# Altium schematic symbol library Power_Management.SchLib: 2 symbols
Pins are listed as number, name and electrical type; pins without a type are passive.

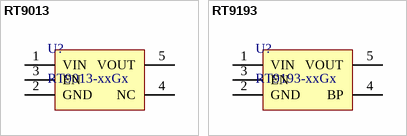
[diagram p0: symbols RT9013 to RT9193]

## RT9013
designator U?, comment RT9013-xxGx
Positive 500mA Low Dropout Regulator
footprint SOT-23-5
pins: 1 VIN, 2 GND, 3 EN, 4 NC, 5 VOUT

## RT9193
designator U?, comment RT9193-xxGx
Positive 300mA Low Dropout Regulator
footprint SOT-23-5
pins: 1 VIN, 2 GND, 3 EN, 4 BP, 5 VOUT